# Altium integrated library Cap_Kemet_C0603C103J5RACTU_10nF.IntLib: 1 symbol
Pins are listed as number, name and electrical type; pins without a type are passive.

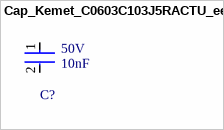
[diagram p0: symbol Cap_Kemet_C0603C103J5RACTU_eec]

## Cap_Kemet_C0603C103J5RACTU_eec
designator C?  Capacitance: 10nF  Voltage: 50V
CAP CER 10000PF 50V X7R 0603; Part Number: C0603C103J5RACTU; Manufacturer: Kemet; Value: 10nF; Mfg Package Ident: C0603; helpURL: https://upverter.com/upn/revision/8a8d0c297e33ac74/; ComponentLink2Description: Datasheet; Temperature: -55°C to +125°C; Package: C0603; Supplier 2: Mouser; Price: 0.0184203126773; Supplier 1: Digi-Key; ComponentLink1URL: https://upverter.com/upn/revision/8a8d0c297e33ac74/; Supplier Part Number 2: 80-C0603C103J5R; Supplier Part Number 1: 399-1092-1-ND; ComponentLink1Description: Upverter; ComponentLink2URL: https://content.kemet.com/datasheets/KEM_C1002_X7R_SMD.pdf; RoHS: TRUE; Mouser Part Number: 80-C0603C103J5R; Temperature Range High: +125°C; Digikey Description: CAP CER 10000PF 50V X7R 0603; Digikey Part Number: 399-1092-1-ND; Lead Free: yes; Temperature Range Low: -55°C
footprint Kemet_C0603_0
pins: 1, 2